# EAGLE library part CTS-218LP-6 (library AS-2-Extras)
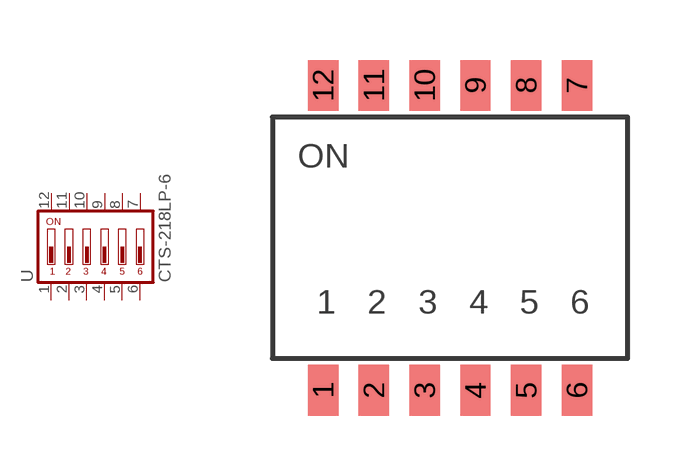
[diagram p5: symbol with the pads of CTS-218-06; footprint CTS-218-06]

Designator prefix -

## CTS-218LP-6  [CTS-218-06]
1  1  pas
2  2  pas
3  3  pas
4  4  pas
5  5  pas
6  6  pas
7  7  pas
8  8  pas
9  9  pas
10  10  pas
11  11  pas
12  12  pas

## Footprint CTS-218-06 (pad centres in mm)
smd 0.76 x 1.27: 1 -3.175,-3.81; 2 -1.905,-3.81; 3 -0.635,-3.81; 4 0.635,-3.81; 5 1.905,-3.81; 6 3.175,-3.81; 7 3.175,3.81; 8 1.905,3.81; 9 0.635,3.81; 10 -0.635,3.81; 11 -1.905,3.81; 12 -3.175,3.81